# Altium footprint library 运放.PcbLib: 2 footprints
Each footprint in its own frame and in the unit in brackets; x right, y up, seen from the top. Pads: shape width x height; smd on the part's side, far side on the other; paste and mask are expansions set on the pad; w line width, h text height; cw(c..) or ccw(c..) is an arc to the next point about the centre after c.
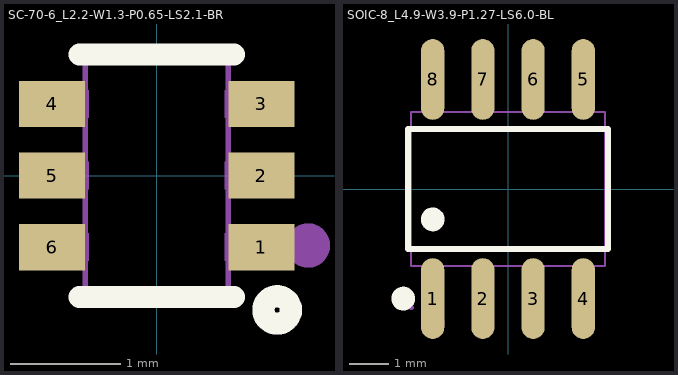
[diagram p0: the footprints below, top view; thin cyan lines are the x and y axes]

## SC-70-6_L2.2-W1.3-P0.65-LS2.1-BR [mm]
pads (6):
  rect 0.6x0.42 smd: 1(0.95,-0.65) 2(0.95,0) 3(0.95,0.65) 4(-0.95,0.65) 5(-0.95,0) 6(-0.95,-0.65)
Top Overlay:
  lines w0.2: -0.7,-1.1 0.7,-1.1 ; -0.7,1.1 0.7,1.1 ; 1.091,-1.094 ccw(c1.092,-1.219) 1.093,-1.094
Mechanical 6:
  circle w0.2: c1.372,-0.635 r0.1
Mechanical 15:
  region: 1.113,-1.1 1.113,-1.075 1.078,-1.04 1.029,-1.04 0.993,-1.075 0.993,-1.1 0.993,-1.125 1.028,-1.16 1.078,-1.16 1.113,-1.125 1.113,-1.1
  region: 0.618,0.525 0.618,0.775 0.763,0.775 0.763,0.525
  region: 0.753,0.525 0.753,0.775 1.053,0.775 1.053,0.525
  region: 0.618,-0.125 0.618,0.125 0.763,0.125 0.763,-0.125
  region: 0.753,-0.125 0.753,0.125 1.053,0.125 1.053,-0.125
  region: 0.618,-0.775 0.618,-0.525 0.763,-0.525 0.763,-0.775
  region: 0.753,-0.775 0.753,-0.525 1.053,-0.525 1.053,-0.775
  region: -0.616,-0.525 -0.616,-0.775 -0.761,-0.775 -0.761,-0.525
  region: -0.751,-0.525 -0.751,-0.775 -1.051,-0.775 -1.051,-0.525
  region: -0.616,0.125 -0.616,-0.125 -0.761,-0.125 -0.761,0.125
  region: -0.751,0.125 -0.751,-0.125 -1.051,-0.125 -1.051,0.125
  region: -0.751,0.775 -0.751,0.525 -1.051,0.525 -1.051,0.775
  region: -0.616,0.775 -0.616,0.525 -0.761,0.525 -0.761,0.775
  lines w0.051: -0.65,-1.1 -0.65,1.1 0.65,1.1 0.65,-1.1 -0.65,-1.1

## SOIC-8_L4.9-W3.9-P1.27-LS6.0-BL [mm]
pads (8):
  oval 0.588x2.045 smd: 1(-1.905,-2.772) 2(-0.635,-2.772) 3(0.635,-2.772) 4(1.905,-2.772) 5(1.905,2.772) 6(0.635,2.772) 7(-0.635,2.772) 8(-1.905,2.772)
Top Overlay:
  circle w0.3: c-2.652,-2.772 r0.15
  circle w0.3: c-1.905,-0.769 r0.15
  lines w0.152: -2.526,-1.521 2.526,-1.521 2.526,1.521 -2.526,1.521 -2.526,-1.521
Mechanical 6:
  circle w0.3: c-1.905,-3.4 r0.15
Mechanical 15:
  region: 1.695,2.175 1.695,1.94 2.115,1.94 2.115,2.175
  region: 1.695,3 1.695,2.165 2.115,2.165 2.115,3
  region: 0.425,2.175 0.425,1.94 0.845,1.94 0.845,2.175
  region: 0.425,3 0.425,2.165 0.845,2.165 0.845,3
  region: -0.845,2.175 -0.845,1.94 -0.425,1.94 -0.425,2.175
  region: -0.845,3 -0.845,2.165 -0.425,2.165 -0.425,3
  region: -2.115,2.175 -2.115,1.94 -1.695,1.94 -1.695,2.175
  region: -2.115,3 -2.115,2.165 -1.695,2.165 -1.695,3
  region: 1.695,-2.175 1.695,-1.94 2.115,-1.94 2.115,-2.175
  region: 1.695,-3 1.695,-2.165 2.115,-2.165 2.115,-3
  region: 0.425,-2.175 0.425,-1.94 0.845,-1.94 0.845,-2.175
  region: 0.425,-3 0.425,-2.165 0.845,-2.165 0.845,-3
  region: -0.845,-2.175 -0.845,-1.94 -0.425,-1.94 -0.425,-2.175
  region: -0.845,-3 -0.845,-2.165 -0.425,-2.165 -0.425,-3
  region: -2.115,-2.175 -2.115,-1.94 -1.695,-1.94 -1.695,-2.175
  region: -2.115,-3 -2.115,-2.165 -1.695,-2.165 -1.695,-3
  region: -2.39,-3 -2.39,-2.975 -2.425,-2.94 -2.475,-2.94 -2.51,-2.975 -2.51,-3 -2.51,-3.025 -2.475,-3.06 -2.425,-3.06 -2.39,-3.025 -2.39,-3
  lines w0.051: -2.45,-1.95 2.45,-1.95 2.45,1.95 -2.45,1.95 -2.45,-1.95